# Altium footprint library Shelestov_Relays.PcbLib: 4 footprints
Each footprint in its own frame and in the unit in brackets; x right, y up, seen from the top. Pads: shape width x height; smd on the part's side, far side on the other; paste and mask are expansions set on the pad; w line width, h text height; cw(c..) or ccw(c..) is an arc to the next point about the centre after c.
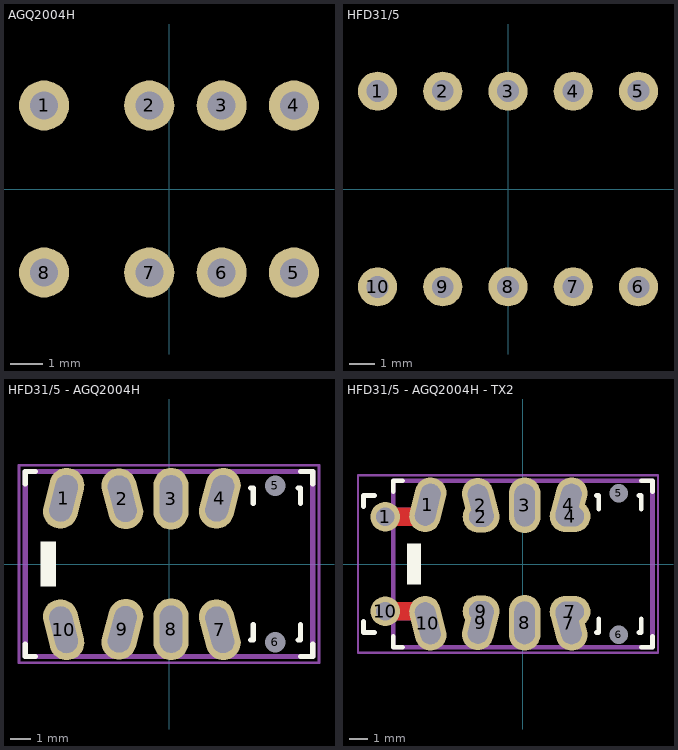
[diagram p0: the footprints below, top view; thin cyan lines are the x and y axes]

## AGQ2004H [mil]
pads (8):
  round 60 hole 33.54: 1(-149.61,100) 2(-23.62,100) 3(62.99,100) 4(149.61,100) 5(149.61,-100) 6(62.99,-100) 7(-23.62,-100) 8(-149.61,-100)
3D body "Panasonic_Relay_AGQ2004H.step": height 220.47, standoff -141.73, extent -214.56,-147.63 214.57,147.64

## HFD31/5 [mil]
pads (10):
  round 60 hole 33.54: 1(-200,150) 2(-100,150) 3(0,150) 4(100,150) 5(200,150) 6(200,-150) 7(100,-150) 8(0,-150) 9(-100,-150) 10(-200,-150)
3D body "p5_ningbo.step": height 196.85, standoff -137.8, extent -275.58,-177.16 275.6,177.17

## HFD31/5 - AGQ2004H [mm]
pads (10):
  oval 3x1.7 hole 1.1 slot 2.3 at 76 deg rot 76: 1(-5.13,3.2)
  oval 3x1.7 hole 1.1 slot 2.3 at 105 deg rot 105: 2(-2.27,3.175) 7(2.475,-3.2)
  oval 1.7x3 hole 1.1 slot 2.3 at 90 deg: 3(0.1,3.175) 8(0.1,-3.175)
  oval 3x1.7 hole 1.1 slot 2.3 at 75 deg rot 75: 4(2.475,3.2) 9(-2.27,-3.175)
  round 0.75 hole 1: 5(5.18,3.81) 6(5.18,-3.81)
  oval 3x1.7 hole 1.1 slot 2.3 at 104 deg rot 104: 10(-5.13,-3.2)
Top Overlay:
  rectangle: -6.25,-1.1 -5.5,1.1
  lines w0.254: -7,-3.9 -7,-4.5 -6.5,-4.5 ; -7,3.9 -7,4.5 -6.5,4.5 ; 3.975,-3.7 4.1,-3.7 4.1,-2.95 ; 3.975,3.7 4.1,3.7 4.1,2.95 ; 6.275,-3.7 6.4,-3.7 6.4,-2.95 ; 6.275,3.7 6.4,3.7 6.4,2.95 ; 6.4,-4.5 7,-4.5 7,-3.9 ; 6.4,4.5 7,4.5 7,3.9
Top Assembly:
  lines w0.254: -7,-4.5 -7,4.5 7,4.5 7,-4.5 -7,-4.5
  text ".Designator" at -6.762,-0.679 h3
Top Courtyard:
  lines w0.127: -7.3,-4.8 7.3,-4.8 7.3,4.8 -7.3,4.8 -7.3,-4.8
3D body "Panasonic_Relay_AGQ2004H.step": height 5.6, standoff -3.6, extent -7,-3.75 3.9,3.75

## HFD31/5 - AGQ2004H - TX2 [mm]
pads (16):
  round 1.6 hole 1: 1(-7.425,2.55) 10(-7.425,-2.55)
  oval 3x1.7 hole 1.1 slot 2.3 at 76 deg rot 76: 1(-5.13,3.2)
  oval 3x1.7 hole 1.1 slot 2.3 at 105 deg rot 105: 2(-2.27,3.175) 7(2.475,-3.2)
  oval 2x1.7 hole 1.1 slot 1.3 at 0 deg: 2(-2.25,2.55) 9(-2.25,-2.55)
  oval 1.7x3 hole 1.1 slot 2.3 at 90 deg: 3(0.1,3.175) 8(0.1,-3.175)
  oval 3x1.7 hole 1.1 slot 2.3 at 75 deg rot 75: 4(2.475,3.2) 9(-2.27,-3.175)
  oval 2.2x1.7 hole 1.1 slot 1.5 at 0 deg: 4(2.55,2.575) 7(2.55,-2.575)
  round 0.75 hole 1: 5(5.18,3.81) 6(5.18,-3.81)
  oval 3x1.7 hole 1.1 slot 2.3 at 104 deg rot 104: 10(-5.13,-3.2)
Top Layer:
  lines w1: -7.425,-2.55 -5.325,-2.55 ; -7.425,2.55 -5.325,2.55
Bottom Layer:
  lines w1: -7.425,-2.55 -5.325,-2.55 ; -7.425,2.55 -5.325,2.55
Top Overlay:
  rectangle: -6.25,-1.1 -5.5,1.1
  lines w0.254: -8.6,-3.1 -8.6,-3.7 -8,-3.7 ; -8.6,3.1 -8.6,3.7 -8,3.7 ; -7,-3.9 -7,-4.5 -6.5,-4.5 ; -7,3.9 -7,4.5 -6.5,4.5 ; 3.975,-3.7 4.1,-3.7 4.1,-2.95 ; 3.975,3.7 4.1,3.7 4.1,2.95 ; 6.275,-3.7 6.4,-3.7 6.4,-2.95 ; 6.275,3.7 6.4,3.7 6.4,2.95 ; 6.4,-4.5 7,-4.5 7,-3.9 ; 6.4,4.5 7,4.5 7,3.9
Top Assembly:
  lines w0.254: -7,-4.5 7,-4.5 7,4.5 -7,4.5 -7,-4.5
  text ".Designator" at -6.762,-0.679 h3
Top Courtyard:
  lines w0.127: -8.9,-4.8 -8.9,4.8 7.3,4.8 7.3,-4.8 -8.9,-4.8
3D body "TX2-5V.step": height 8.41, standoff -3.3, extent -8.6,-3.7 6.4,3.7